# EAGLE library part 16-WAY (library pimoroni-headers)
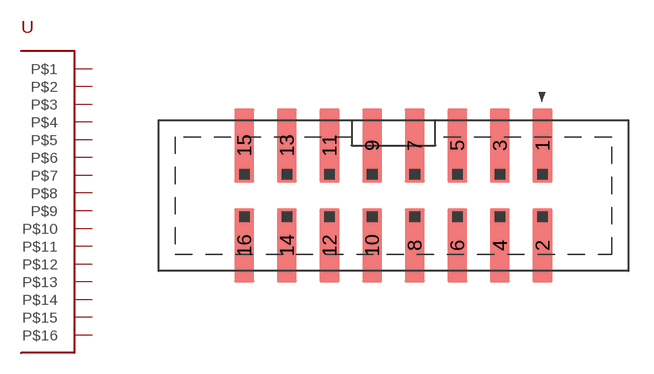
[diagram p12: symbol with the pads of 2X8-SMD; footprint 2X8-SMD]

Designator prefix -

## 16-WAY  [2X8-SMD]
1  P$1
2  P$2
3  P$3
4  P$4
5  P$5
6  P$6
7  P$7
8  P$8
9  P$9
10  P$10
11  P$11
12  P$12
13  P$13
14  P$14
15  P$15
16  P$16

## Footprint 2X8-SMD (pad centres in mm)
smd 1.2 x 4.4: 1 8.885,2.99; 2 8.885,-2.978; 3 6.345,2.99; 4 6.345,-2.978; 5 3.805,2.99; 6 3.805,-2.978; 7 1.265,2.99; 8 1.265,-2.978; 9 -1.275,2.99; 10 -1.275,-2.978; 11 -3.815,2.99; 12 -3.815,-2.978; 13 -6.355,2.99; 14 -6.355,-2.978; 15 -8.895,2.99; 16 -8.895,-2.978